# EAGLE library part RELAY-DPDT-2 (library spietz-library-2)
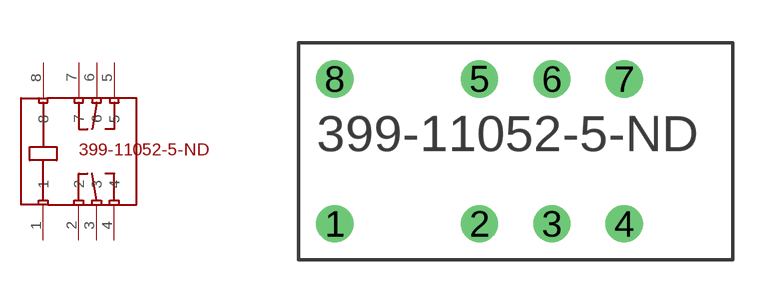
[diagram p13: symbol with the pads of RELAY=DPDT-2; footprint RELAY=DPDT-2]

Designator prefix -

## RELAY-DPDT-2  [RELAY=DPDT-2]
1  1
2  2
3  3
4  4
5  5
6  6
7  7
8  8

## Footprint RELAY=DPDT-2 (pad centres in mm)
drill 0.8: 1 0.635,0; 2 5.715,0; 3 8.255,0; 4 10.795,0; 5 5.715,5.08; 6 8.255,5.08; 7 10.795,5.08; 8 0.635,5.08